# Altium integrated library Intersil DSP 20-Bit.IntLib: 8 symbols
Pins are listed as number, name and electrical type; pins without a type are passive.

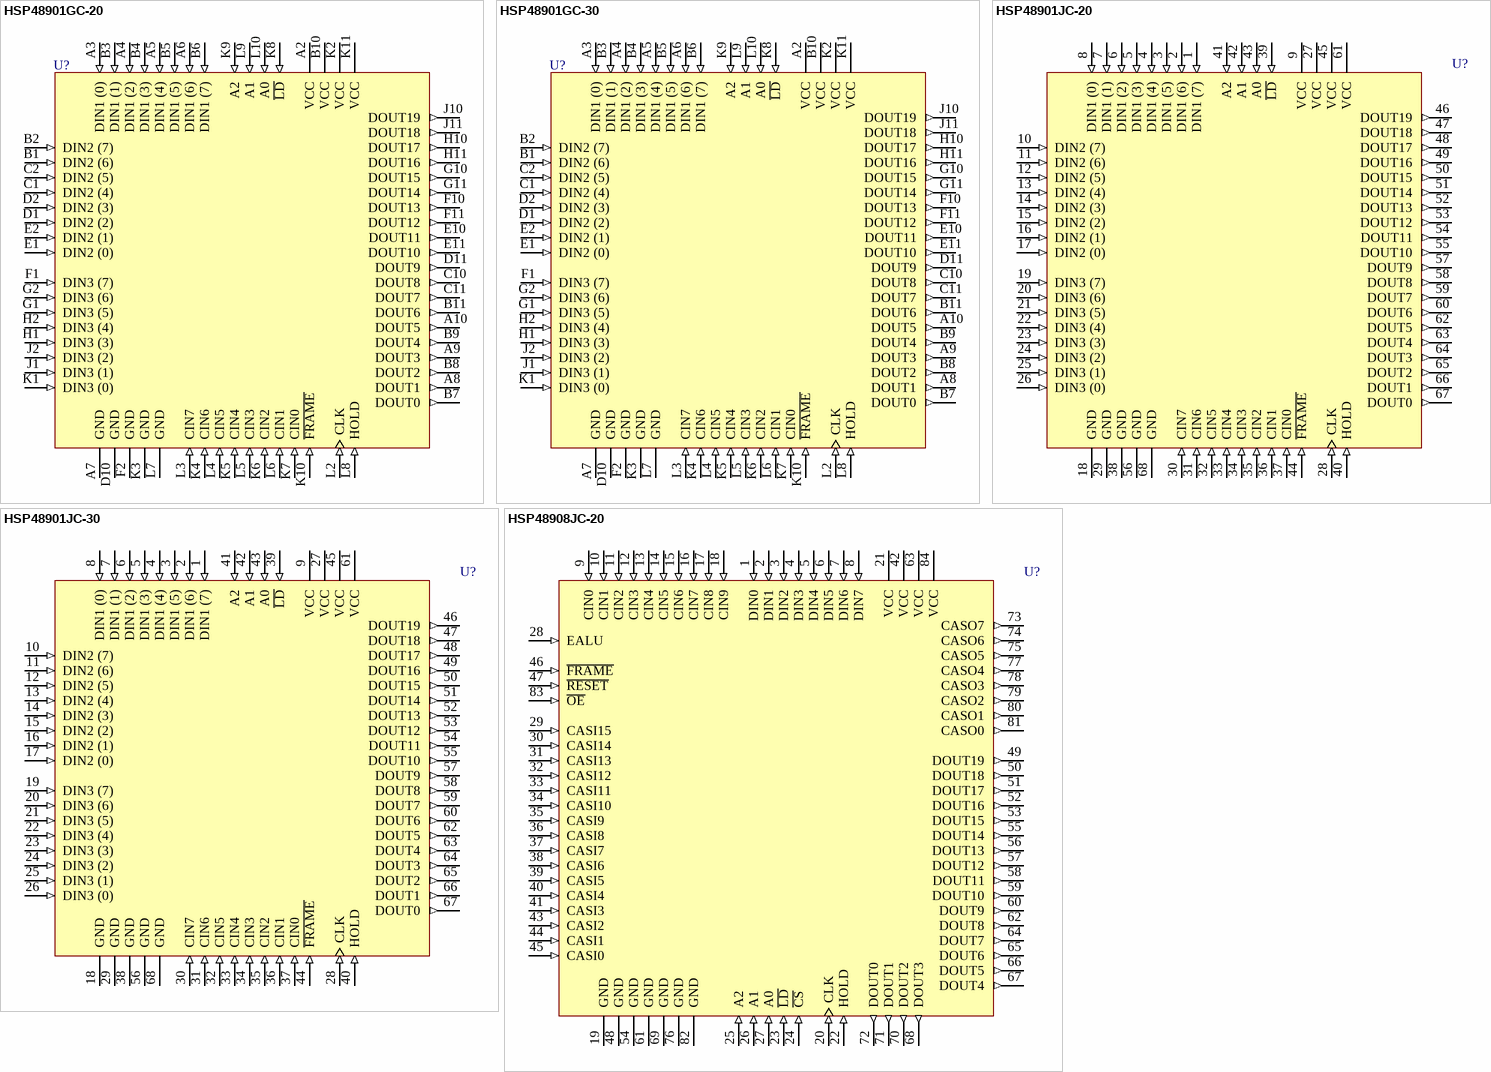
[diagram p0: symbols HSP48901GC-20 to HSP48908JC-20]

## HSP48901GC-20
designator U?
3 x 3 Image Filter; Published: 17-Jul-2002; LatestRevisionDate: 06-Jun-2005; LatestRevisionNote: Stylized 3D Model Added.; DatasheetVersion: May-1999; PackageVersion: Jun-1995; PackageReference: G68.A; Publisher: Altium Limited; PackageDescription: 68-Pin Pin Grid Array 2.54 mm Pitch; ComponentLink1Description: Manufacturer Link; ComponentLink1URL: http://www.intersil.com/cda/home/
footprint G68.A (PGA, 68-Leads, Body 29.5x29.5mm, Pitch 2.54mm)
3D model HSP48901-G68_A (68-Pin Pin Grid Array 2.54 mm Pitch)
pins: A2 VCC (power), A3 DIN1 (0) (in), A4 DIN1 (2) (in), A5 DIN1 (4) (in), A6 DIN1 (6) (in), A7 GND (power), A8 DOUT1 (out), A9 DOUT3 (out), A10 DOUT5 (out), B1 DIN2 (6) (in), B2 DIN2 (7) (in), B3 DIN1 (1) (in), B4 DIN1 (3) (in), B5 DIN1 (5) (in), B6 DIN1 (7) (in), B7 DOUT0 (out), B8 DOUT2 (out), B9 DOUT4 (out), B10 VCC (power), B11 DOUT6 (out), C1 DIN2 (4) (in), C2 DIN2 (5) (in), C10 DOUT8 (out), C11 DOUT7 (out), D1 DIN2 (2) (in), D2 DIN2 (3) (in), D10 GND (power), D11 DOUT9 (out), E1 DIN2 (0) (in), E2 DIN2 (1) (in), E10 DOUT11 (out), E11 DOUT10 (out), F1 DIN3 (7) (in), F2 GND (power), F10 DOUT13 (out), F11 DOUT12 (out), G1 DIN3 (5) (in), G2 DIN3 (6) (in), G10 DOUT15 (out), G11 DOUT14 (out), H1 DIN3 (3) (in), H2 DIN3 (4) (in), H10 DOUT17 (out), H11 DOUT16 (out), J1 DIN3 (1) (in), J2 DIN3 (2) (in), J10 DOUT19 (out), J11 DOUT18 (out), K1 DIN3 (0) (in), K2 VCC (power), K3 GND (power), K4 CIN6 (in), K5 CIN4 (in), K6 CIN2 (in), K7 CIN0 (in), K8 ~{LD} (in), K9 A2 (in), K10 ~{FRAME} (in), K11 VCC (power), L2 CLK (in), L3 CIN7 (in), L4 CIN5 (in), L5 CIN3 (in), L6 CIN1 (in), L7 GND (power), L8 HOLD (in), L9 A1 (in), L10 A0 (in)

## HSP48901GC-30
designator U?
3 x 3 Image Filter; Published: 17-Jul-2002; LatestRevisionDate: 06-Jun-2005; LatestRevisionNote: Stylized 3D Model Added.; DatasheetVersion: May-1999; PackageVersion: Jun-1995; PackageReference: G68.A; Publisher: Altium Limited; PackageDescription: 68-Pin Pin Grid Array 2.54 mm Pitch; ComponentLink1Description: Manufacturer Link; ComponentLink1URL: http://www.intersil.com/cda/home/
footprint G68.A (PGA, 68-Leads, Body 29.5x29.5mm, Pitch 2.54mm)
3D model HSP48901-G68_A (68-Pin Pin Grid Array 2.54 mm Pitch)
pins: A2 VCC (power), A3 DIN1 (0) (in), A4 DIN1 (2) (in), A5 DIN1 (4) (in), A6 DIN1 (6) (in), A7 GND (power), A8 DOUT1 (out), A9 DOUT3 (out), A10 DOUT5 (out), B1 DIN2 (6) (in), B2 DIN2 (7) (in), B3 DIN1 (1) (in), B4 DIN1 (3) (in), B5 DIN1 (5) (in), B6 DIN1 (7) (in), B7 DOUT0 (out), B8 DOUT2 (out), B9 DOUT4 (out), B10 VCC (power), B11 DOUT6 (out), C1 DIN2 (4) (in), C2 DIN2 (5) (in), C10 DOUT8 (out), C11 DOUT7 (out), D1 DIN2 (2) (in), D2 DIN2 (3) (in), D10 GND (power), D11 DOUT9 (out), E1 DIN2 (0) (in), E2 DIN2 (1) (in), E10 DOUT11 (out), E11 DOUT10 (out), F1 DIN3 (7) (in), F2 GND (power), F10 DOUT13 (out), F11 DOUT12 (out), G1 DIN3 (5) (in), G2 DIN3 (6) (in), G10 DOUT15 (out), G11 DOUT14 (out), H1 DIN3 (3) (in), H2 DIN3 (4) (in), H10 DOUT17 (out), H11 DOUT16 (out), J1 DIN3 (1) (in), J2 DIN3 (2) (in), J10 DOUT19 (out), J11 DOUT18 (out), K1 DIN3 (0) (in), K2 VCC (power), K3 GND (power), K4 CIN6 (in), K5 CIN4 (in), K6 CIN2 (in), K7 CIN0 (in), K8 ~{LD} (in), K9 A2 (in), K10 ~{FRAME} (in), K11 VCC (power), L2 CLK (in), L3 CIN7 (in), L4 CIN5 (in), L5 CIN3 (in), L6 CIN1 (in), L7 GND (power), L8 HOLD (in), L9 A1 (in), L10 A0 (in)

## HSP48901JC-20
designator U?
3 x 3 Image Filter; Published: 17-Jul-2002; LatestRevisionDate: 13-Apr-2006; LatestRevisionNote: IPC-7351 Footprint Added.; DatasheetVersion: May-1999; PackageVersion: Nov-1997; PackageReference: N68.95; Publisher: Altium Limited; PackageDescription: 68-Pin Leaded Chip Carrier 1.27 mm Pitch; Code_IPC: PLCC-68; ComponentLink1Description: Manufacturer Link; ComponentLink1URL: http://www.intersil.com/cda/home/
footprint N68.95_N (Leaded Chip Carrier, 68-Leads, Body 24x24mm, Pitch 1.27mm, IPC Medium Density)
footprint N68.95_L (Leaded Chip Carrier, 68-Leads, Body 24x24mm, Pitch 1.27mm, IPC High Density)
footprint N68.95_M (Leaded Chip Carrier, 68-Leads, Body 24x24mm, Pitch 1.27mm, IPC Low Density)
3D model HSP48901-N68_95 (68-Pin Leaded Chip Carrier 1.27 mm Pitch)
pins: 1 DIN1 (7) (in), 2 DIN1 (6) (in), 3 DIN1 (5) (in), 4 DIN1 (4) (in), 5 DIN1 (3) (in), 6 DIN1 (2) (in), 7 DIN1 (1) (in), 8 DIN1 (0) (in), 9 VCC (power), 10 DIN2 (7) (in), 11 DIN2 (6) (in), 12 DIN2 (5) (in), 13 DIN2 (4) (in), 14 DIN2 (3) (in), 15 DIN2 (2) (in), 16 DIN2 (1) (in), 17 DIN2 (0) (in), 18 GND (power), 19 DIN3 (7) (in), 20 DIN3 (6) (in), 21 DIN3 (5) (in), 22 DIN3 (4) (in), 23 DIN3 (3) (in), 24 DIN3 (2) (in), 25 DIN3 (1) (in), 26 DIN3 (0) (in), 27 VCC (power), 28 CLK (in), 29 GND (power), 30 CIN7 (in), 31 CIN6 (in), 32 CIN5 (in), 33 CIN4 (in), 34 CIN3 (in), 35 CIN2 (in), 36 CIN1 (in), 37 CIN0 (in), 38 GND (power), 39 ~{LD} (in), 40 HOLD (in), 41 A2 (in), 42 A1 (in), 43 A0 (in), 44 ~{FRAME} (in), 45 VCC (power), 46 DOUT19 (out), 47 DOUT18 (out), 48 DOUT17 (out), 49 DOUT16 (out), 50 DOUT15 (out), 51 DOUT14 (out), 52 DOUT13 (out), 53 DOUT12 (out), 54 DOUT11 (out), 55 DOUT10 (out), 56 GND (power), 57 DOUT9 (out), 58 DOUT8 (out), 59 DOUT7 (out), 60 DOUT6 (out), 61 VCC (power), 62 DOUT5 (out), 63 DOUT4 (out), 64 DOUT3 (out), 65 DOUT2 (out), 66 DOUT1 (out), 67 DOUT0 (out), 68 GND (power)

## HSP48901JC-30
designator U?
3 x 3 Image Filter; Published: 17-Jul-2002; LatestRevisionDate: 13-Apr-2006; LatestRevisionNote: IPC-7351 Footprint Added.; DatasheetVersion: May-1999; PackageVersion: Nov-1997; PackageReference: N68.95; Publisher: Altium Limited; PackageDescription: 68-Pin Leaded Chip Carrier 1.27 mm Pitch; Code_IPC: PLCC-68; ComponentLink1Description: Manufacturer Link; ComponentLink1URL: http://www.intersil.com/cda/home/
footprint N68.95_N (Leaded Chip Carrier, 68-Leads, Body 24x24mm, Pitch 1.27mm, IPC Medium Density)
footprint N68.95_L (Leaded Chip Carrier, 68-Leads, Body 24x24mm, Pitch 1.27mm, IPC High Density)
footprint N68.95_M (Leaded Chip Carrier, 68-Leads, Body 24x24mm, Pitch 1.27mm, IPC Low Density)
3D model HSP48901-N68_95 (68-Pin Leaded Chip Carrier 1.27 mm Pitch)
pins: 1 DIN1 (7) (in), 2 DIN1 (6) (in), 3 DIN1 (5) (in), 4 DIN1 (4) (in), 5 DIN1 (3) (in), 6 DIN1 (2) (in), 7 DIN1 (1) (in), 8 DIN1 (0) (in), 9 VCC (power), 10 DIN2 (7) (in), 11 DIN2 (6) (in), 12 DIN2 (5) (in), 13 DIN2 (4) (in), 14 DIN2 (3) (in), 15 DIN2 (2) (in), 16 DIN2 (1) (in), 17 DIN2 (0) (in), 18 GND (power), 19 DIN3 (7) (in), 20 DIN3 (6) (in), 21 DIN3 (5) (in), 22 DIN3 (4) (in), 23 DIN3 (3) (in), 24 DIN3 (2) (in), 25 DIN3 (1) (in), 26 DIN3 (0) (in), 27 VCC (power), 28 CLK (in), 29 GND (power), 30 CIN7 (in), 31 CIN6 (in), 32 CIN5 (in), 33 CIN4 (in), 34 CIN3 (in), 35 CIN2 (in), 36 CIN1 (in), 37 CIN0 (in), 38 GND (power), 39 ~{LD} (in), 40 HOLD (in), 41 A2 (in), 42 A1 (in), 43 A0 (in), 44 ~{FRAME} (in), 45 VCC (power), 46 DOUT19 (out), 47 DOUT18 (out), 48 DOUT17 (out), 49 DOUT16 (out), 50 DOUT15 (out), 51 DOUT14 (out), 52 DOUT13 (out), 53 DOUT12 (out), 54 DOUT11 (out), 55 DOUT10 (out), 56 GND (power), 57 DOUT9 (out), 58 DOUT8 (out), 59 DOUT7 (out), 60 DOUT6 (out), 61 VCC (power), 62 DOUT5 (out), 63 DOUT4 (out), 64 DOUT3 (out), 65 DOUT2 (out), 66 DOUT1 (out), 67 DOUT0 (out), 68 GND (power)

## HSP48908JC-20
designator U?
Two Dimensional Convolvor; Published: 17-Jul-2002; LatestRevisionDate: 13-Apr-2006; LatestRevisionNote: IPC-7351 Footprint Added.; DatasheetVersion: May-1999; PackageVersion: Nov-1997; PackageReference: N84.1.15; Publisher: Altium Limited; PackageDescription: 84-Pin Leaded Chip Carrier 1.27 mm Pitch; Code_IPC: PLCC-84; ComponentLink1Description: Manufacturer Link; ComponentLink1URL: http://www.intersil.com/cda/home/
footprint N84.1.15_N (Leaded Chip Carrier, 84-Leads, Body 29.3x29.3mm, Pitch 1.27mm, IPC Medium Density)
footprint N84.1.15_L (Leaded Chip Carrier, 84-Leads, Body 29.3x29.3mm, Pitch 1.27mm, IPC High Density)
footprint N84.1.15_M (Leaded Chip Carrier, 84-Leads, Body 29.3x29.3mm, Pitch 1.27mm, IPC Low Density)
3D model HSP48908-N84_1_15 (84-Pin Leaded Chip Carrier 1.27 mm Pitch)
pins: 1 DIN0 (in), 2 DIN1 (in), 3 DIN2 (in), 4 DIN3 (in), 5 DIN4 (in), 6 DIN5 (in), 7 DIN6 (in), 8 DIN7 (in), 9 CIN0 (in), 10 CIN1 (in), 11 CIN2 (in), 12 CIN3 (in), 13 CIN4 (in), 14 CIN5 (in), 15 CIN6 (in), 16 CIN7 (in), 17 CIN8 (in), 18 CIN9 (in), 19 GND (power), 20 CLK (in), 21 VCC (power), 22 HOLD (in), 23 ~{LD} (in), 24 ~{CS} (in), 25 A2 (in), 26 A1 (in), 27 A0 (in), 28 EALU (in), 29 CASI15 (in), 30 CASI14 (in), 31 CASI13 (in), 32 CASI12 (in), 33 CASI11 (in), 34 CASI10 (in), 35 CASI9 (in), 36 CASI8 (in), 37 CASI7 (in), 38 CASI6 (in), 39 CASI5 (in), 40 CASI4 (in), 41 CASI3 (in), 42 VCC (power), 43 CASI2 (in), 44 CASI1 (in), 45 CASI0 (in), 46 ~{FRAME} (in), 47 ~{RESET} (in), 48 GND (power), 49 DOUT19 (out), 50 DOUT18 (out), 51 DOUT17 (out), 52 DOUT16 (out), 53 DOUT15 (out), 54 GND (power), 55 DOUT14 (out), 56 DOUT13 (out), 57 DOUT12 (out), 58 DOUT11 (out), 59 DOUT10 (out), 60 DOUT9 (out), 61 GND (power), 62 DOUT8 (out), 63 VCC (power), 64 DOUT7 (out), 65 DOUT6 (out), 66 DOUT5 (out), 67 DOUT4 (out), 68 DOUT3 (out), 69 GND (power), 70 DOUT2 (out), 71 DOUT1 (out), 72 DOUT0 (out), 73 CASO7 (out), 74 CASO6 (out), 75 CASO5 (out), 76 GND (power), 77 CASO4 (out), 78 CASO3 (out), 79 CASO2 (out), 80 CASO1 (out), 81 CASO0 (out), 82 GND (power), 83 ~{OE} (in), 84 VCC (power)

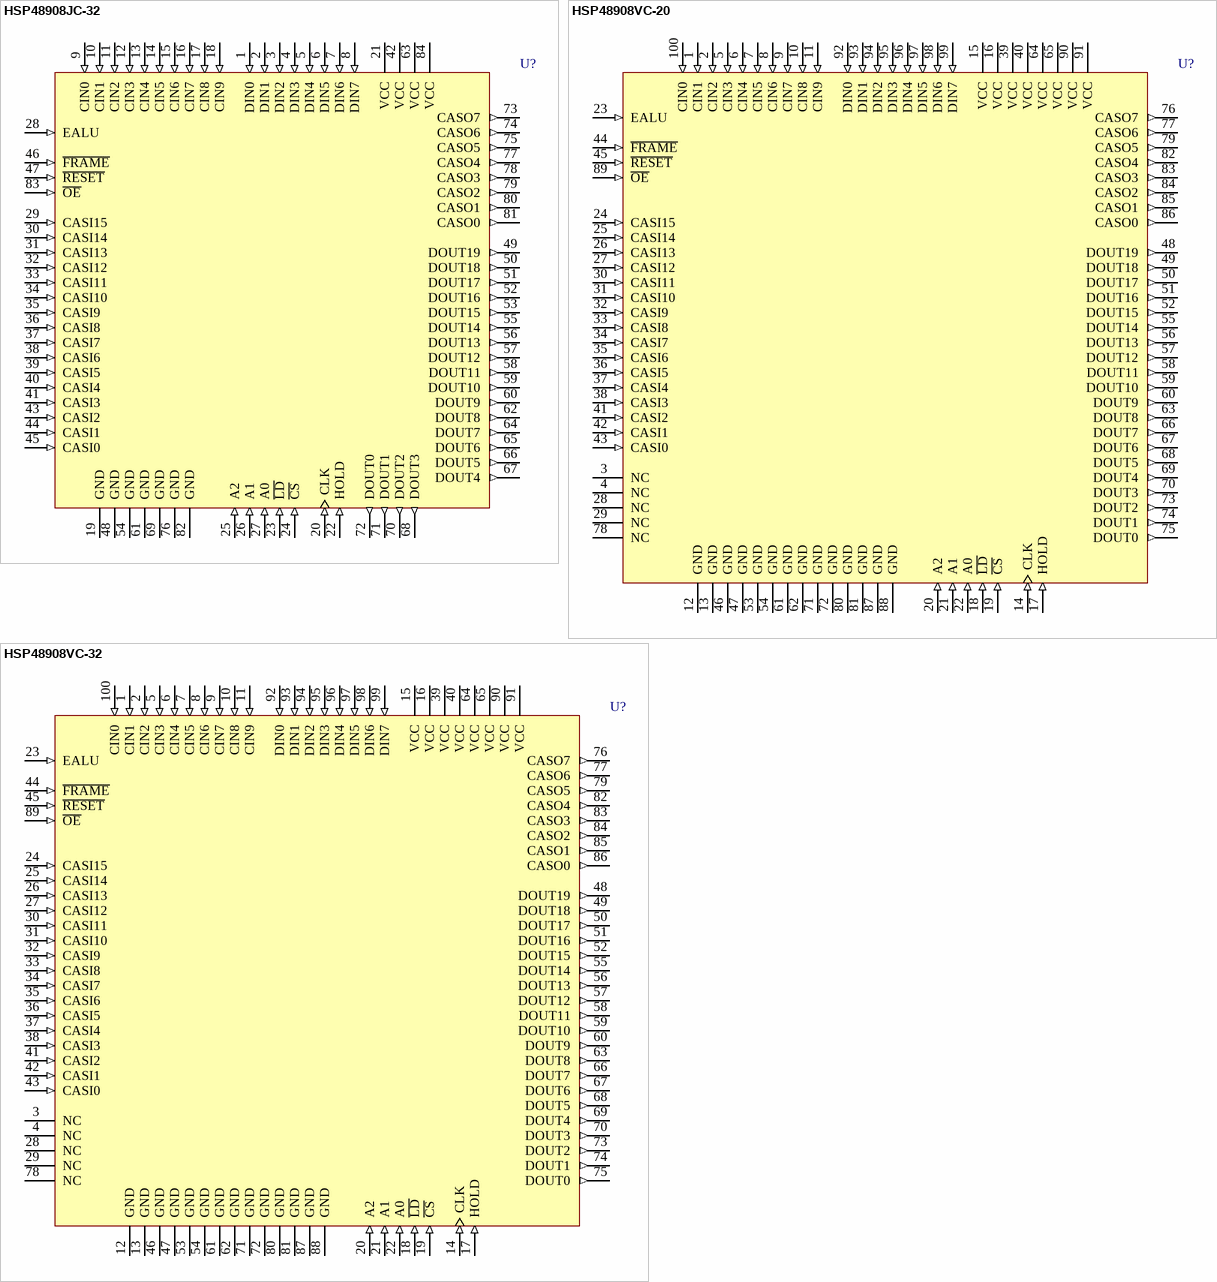
[diagram p1: symbols HSP48908JC-32 to HSP48908VC-32]

## HSP48908JC-32
designator U?
Two Dimensional Convolvor; Published: 17-Jul-2002; LatestRevisionDate: 13-Apr-2006; LatestRevisionNote: IPC-7351 Footprint Added.; DatasheetVersion: May-1999; PackageVersion: Nov-1997; PackageReference: N84.1.15; Publisher: Altium Limited; PackageDescription: 84-Pin Leaded Chip Carrier 1.27 mm Pitch; Code_IPC: PLCC-84; ComponentLink1Description: Manufacturer Link; ComponentLink1URL: http://www.intersil.com/cda/home/
footprint N84.1.15_N (Leaded Chip Carrier, 84-Leads, Body 29.3x29.3mm, Pitch 1.27mm, IPC Medium Density)
footprint N84.1.15_L (Leaded Chip Carrier, 84-Leads, Body 29.3x29.3mm, Pitch 1.27mm, IPC High Density)
footprint N84.1.15_M (Leaded Chip Carrier, 84-Leads, Body 29.3x29.3mm, Pitch 1.27mm, IPC Low Density)
3D model HSP48908-N84_1_15 (84-Pin Leaded Chip Carrier 1.27 mm Pitch)
pins: 1 DIN0 (in), 2 DIN1 (in), 3 DIN2 (in), 4 DIN3 (in), 5 DIN4 (in), 6 DIN5 (in), 7 DIN6 (in), 8 DIN7 (in), 9 CIN0 (in), 10 CIN1 (in), 11 CIN2 (in), 12 CIN3 (in), 13 CIN4 (in), 14 CIN5 (in), 15 CIN6 (in), 16 CIN7 (in), 17 CIN8 (in), 18 CIN9 (in), 19 GND (power), 20 CLK (in), 21 VCC (power), 22 HOLD (in), 23 ~{LD} (in), 24 ~{CS} (in), 25 A2 (in), 26 A1 (in), 27 A0 (in), 28 EALU (in), 29 CASI15 (in), 30 CASI14 (in), 31 CASI13 (in), 32 CASI12 (in), 33 CASI11 (in), 34 CASI10 (in), 35 CASI9 (in), 36 CASI8 (in), 37 CASI7 (in), 38 CASI6 (in), 39 CASI5 (in), 40 CASI4 (in), 41 CASI3 (in), 42 VCC (power), 43 CASI2 (in), 44 CASI1 (in), 45 CASI0 (in), 46 ~{FRAME} (in), 47 ~{RESET} (in), 48 GND (power), 49 DOUT19 (out), 50 DOUT18 (out), 51 DOUT17 (out), 52 DOUT16 (out), 53 DOUT15 (out), 54 GND (power), 55 DOUT14 (out), 56 DOUT13 (out), 57 DOUT12 (out), 58 DOUT11 (out), 59 DOUT10 (out), 60 DOUT9 (out), 61 GND (power), 62 DOUT8 (out), 63 VCC (power), 64 DOUT7 (out), 65 DOUT6 (out), 66 DOUT5 (out), 67 DOUT4 (out), 68 DOUT3 (out), 69 GND (power), 70 DOUT2 (out), 71 DOUT1 (out), 72 DOUT0 (out), 73 CASO7 (out), 74 CASO6 (out), 75 CASO5 (out), 76 GND (power), 77 CASO4 (out), 78 CASO3 (out), 79 CASO2 (out), 80 CASO1 (out), 81 CASO0 (out), 82 GND (power), 83 ~{OE} (in), 84 VCC (power)

## HSP48908VC-20
designator U?
Two Dimensional Convolvor; Published: 17-Jul-2002; LatestRevisionDate: 13-Apr-2006; LatestRevisionNote: IPC-7351 Footprint Added.; DatasheetVersion: May-1999; PackageReference: Q100.14x20; Publisher: Altium Limited; PackageDescription: 100-Pin Quad Flat Pack Rectangular 0.65 mm Pitch; Code_IPC: QFP65P1720X2320-100; ComponentLink1Description: Manufacturer Link; ComponentLink1URL: http://www.intersil.com/cda/home/
footprint Q100.14x20_N (QFP, 100-Leads, Body 20x14mm, Pitch 0.65mm, IPC Medium Density)
footprint Q100.14x20_L (QFP, 100-Leads, Body 20x14mm, Pitch 0.65mm, IPC High Density)
footprint Q100.14x20_M (QFP, 100-Leads, Body 20x14mm, Pitch 0.65mm, IPC Low Density)
3D model HSP48908-Q100_14x20 (100-Pin Quad Flat Pack Rectangular 0.65 mm Pitch)
pins: 1 CIN1 (in), 2 CIN2 (in), 3 NC, 4 NC, 5 CIN3 (in), 6 CIN4 (in), 7 CIN5 (in), 8 CIN6 (in), 9 CIN7 (in), 10 CIN8 (in), 11 CIN9 (in), 12 GND (power), 13 GND (power), 14 CLK (in), 15 VCC (power), 16 VCC (power), 17 HOLD (in), 18 ~{LD} (in), 19 ~{CS} (in), 20 A2 (in), 21 A1 (in), 22 A0 (in), 23 EALU (in), 24 CASI15 (in), 25 CASI14 (in), 26 CASI13 (in), 27 CASI12 (in), 28 NC, 29 NC, 30 CASI11 (in), 31 CASI10 (in), 32 CASI9 (in), 33 CASI8 (in), 34 CASI7 (in), 35 CASI6 (in), 36 CASI5 (in), 37 CASI4 (in), 38 CASI3 (in), 39 VCC (power), 40 VCC (power), 41 CASI2 (in), 42 CASI1 (in), 43 CASI0 (in), 44 ~{FRAME} (in), 45 ~{RESET} (in), 46 GND (power), 47 GND (power), 48 DOUT19 (out), 49 DOUT18 (out), 50 DOUT17 (out), 51 DOUT16 (out), 52 DOUT15 (out), 53 GND (power), 54 GND (power), 55 DOUT14 (out), 56 DOUT13 (out), 57 DOUT12 (out), 58 DOUT11 (out), 59 DOUT10 (out), 60 DOUT9 (out), 61 GND (power), 62 GND (power), 63 DOUT8 (out), 64 VCC (power), 65 VCC (power), 66 DOUT7 (out), 67 DOUT6 (out), 68 DOUT5 (out), 69 DOUT4 (out), 70 DOUT3 (out), 71 GND (power), 72 GND (power), 73 DOUT2 (out), 74 DOUT1 (out), 75 DOUT0 (out), 76 CASO7 (out), 77 CASO6 (out), 78 NC, 79 CASO5 (out), 80 GND (power), 81 GND (power), 82 CASO4 (out), 83 CASO3 (out), 84 CASO2 (out), 85 CASO1 (out), 86 CASO0 (out), 87 GND (power), 88 GND (power), 89 ~{OE} (in), 90 VCC (power), 91 VCC (power), 92 DIN0 (in), 93 DIN1 (in), 94 DIN2 (in), 95 DIN3 (in), 96 DIN4 (in), 97 DIN5 (in), 98 DIN6 (in), 99 DIN7 (in), 100 CIN0 (in)

## HSP48908VC-32
designator U?
Two Dimensional Convolvor; Published: 17-Jul-2002; LatestRevisionDate: 13-Apr-2006; LatestRevisionNote: IPC-7351 Footprint Added.; DatasheetVersion: May-1999; PackageReference: Q100.14x20; Publisher: Altium Limited; PackageDescription: 100-Pin Quad Flat Pack Rectangular 0.65 mm Pitch; Code_IPC: QFP65P1720X2320-100; ComponentLink1Description: Manufacturer Link; ComponentLink1URL: http://www.intersil.com/cda/home/
footprint Q100.14x20_N (QFP, 100-Leads, Body 20x14mm, Pitch 0.65mm, IPC Medium Density)
footprint Q100.14x20_L (QFP, 100-Leads, Body 20x14mm, Pitch 0.65mm, IPC High Density)
footprint Q100.14x20_M (QFP, 100-Leads, Body 20x14mm, Pitch 0.65mm, IPC Low Density)
3D model HSP48908-Q100_14x20 (100-Pin Quad Flat Pack Rectangular 0.65 mm Pitch)
pins: 1 CIN1 (in), 2 CIN2 (in), 3 NC, 4 NC, 5 CIN3 (in), 6 CIN4 (in), 7 CIN5 (in), 8 CIN6 (in), 9 CIN7 (in), 10 CIN8 (in), 11 CIN9 (in), 12 GND (power), 13 GND (power), 14 CLK (in), 15 VCC (power), 16 VCC (power), 17 HOLD (in), 18 ~{LD} (in), 19 ~{CS} (in), 20 A2 (in), 21 A1 (in), 22 A0 (in), 23 EALU (in), 24 CASI15 (in), 25 CASI14 (in), 26 CASI13 (in), 27 CASI12 (in), 28 NC, 29 NC, 30 CASI11 (in), 31 CASI10 (in), 32 CASI9 (in), 33 CASI8 (in), 34 CASI7 (in), 35 CASI6 (in), 36 CASI5 (in), 37 CASI4 (in), 38 CASI3 (in), 39 VCC (power), 40 VCC (power), 41 CASI2 (in), 42 CASI1 (in), 43 CASI0 (in), 44 ~{FRAME} (in), 45 ~{RESET} (in), 46 GND (power), 47 GND (power), 48 DOUT19 (out), 49 DOUT18 (out), 50 DOUT17 (out), 51 DOUT16 (out), 52 DOUT15 (out), 53 GND (power), 54 GND (power), 55 DOUT14 (out), 56 DOUT13 (out), 57 DOUT12 (out), 58 DOUT11 (out), 59 DOUT10 (out), 60 DOUT9 (out), 61 GND (power), 62 GND (power), 63 DOUT8 (out), 64 VCC (power), 65 VCC (power), 66 DOUT7 (out), 67 DOUT6 (out), 68 DOUT5 (out), 69 DOUT4 (out), 70 DOUT3 (out), 71 GND (power), 72 GND (power), 73 DOUT2 (out), 74 DOUT1 (out), 75 DOUT0 (out), 76 CASO7 (out), 77 CASO6 (out), 78 NC, 79 CASO5 (out), 80 GND (power), 81 GND (power), 82 CASO4 (out), 83 CASO3 (out), 84 CASO2 (out), 85 CASO1 (out), 86 CASO0 (out), 87 GND (power), 88 GND (power), 89 ~{OE} (in), 90 VCC (power), 91 VCC (power), 92 DIN0 (in), 93 DIN1 (in), 94 DIN2 (in), 95 DIN3 (in), 96 DIN4 (in), 97 DIN5 (in), 98 DIN6 (in), 99 DIN7 (in), 100 CIN0 (in)